# Altium schematic symbol library SMLib.SchLib: 32 symbols
Pins are listed as number, name and electrical type; pins without a type are passive.

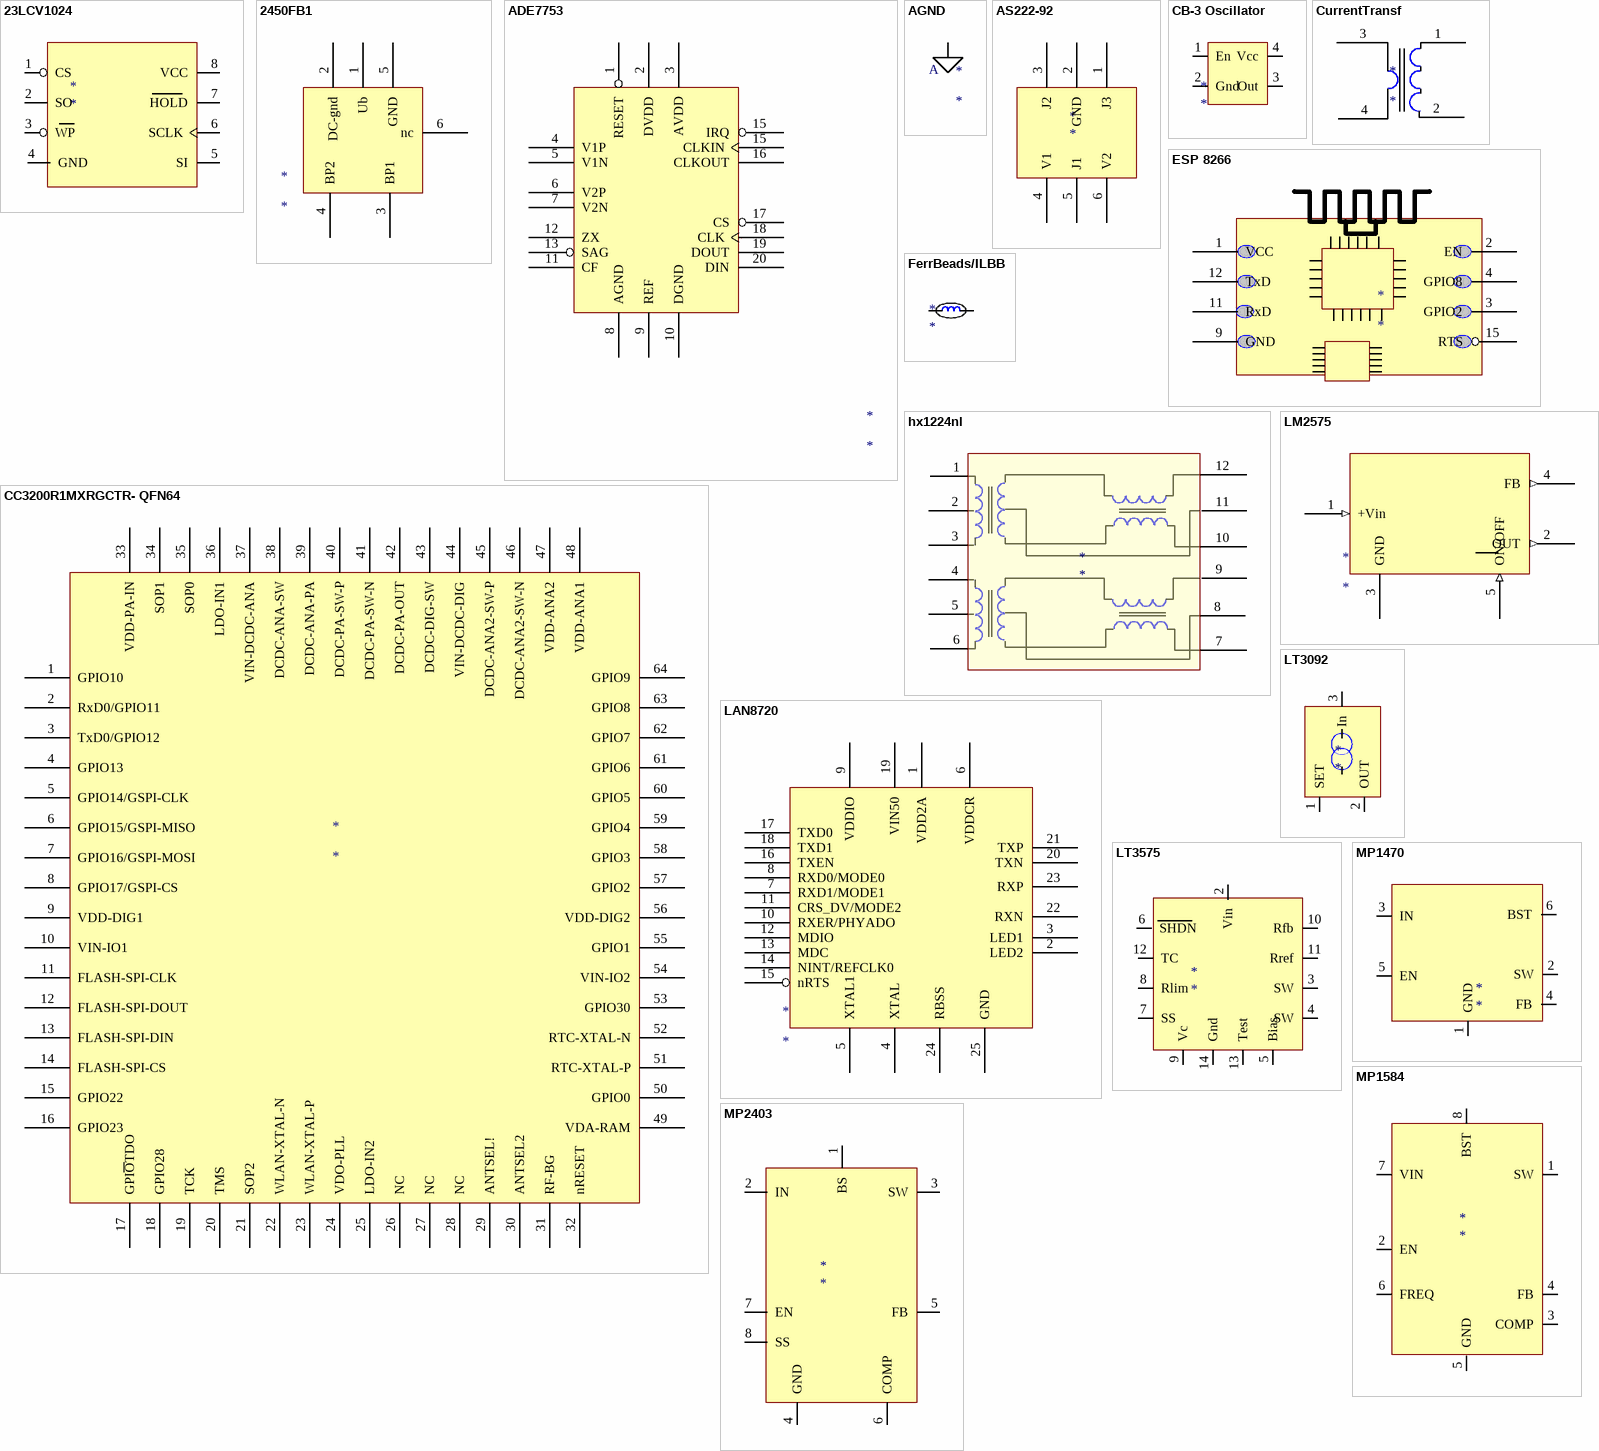
[diagram p0: symbols 23LCV1024 to MP2403]

## 23LCV1024
designator *
pins: 1 CS, 2 SO, 3 WP, 4 GND, 5 SI, 6 SCLK, 7 HOLD, 8 VCC

## 2450FB1
designator *
currTrans
footprint 2450FB1
pins: 1 Ub, 2 DC-gnd, 3 BP1, 4 BP2, 5 GND, 6 nc

## ADE7753
designator *
pins: 1 RESET, 2 DVDD, 3 AVDD, 4 V1P, 5 V1N, 6 V2P, 7 V2N, 8 AGND, 9 REF, 10 DGND, 11 CF, 12 ZX, 13 SAG, 15 IRQ, 15 CLKIN, 16 CLKOUT, 17 CS, 18 CLK, 19 DOUT, 20 DIN

## AGND
designator *
footprint HC49/4H_SMX (Quartz Crystal, SM; Body 13.4 (inc. leads) x 4.9 mm (LxW max))
footprint HC49/4H_SMX (Quartz Crystal, SM; Body 13.4 (inc. leads) x 4.9 mm (LxW max))
pins: VIN18 (power)
text: A

## AS222-92
designator *
footprint AS222-92
pins: 1 J3, 2 GND, 3 J2, 4 V1, 5 J1, 6 V2

## CB-3 Oscillator
designator *
pins: 1 En, 2 Gnd, 3 Out, 4 Vcc

## CC3200R1MXRGCTR- QFN64
designator *
footprint QNF64 (Footprint not found)
footprint QNF64 (Footprint not found)
footprint D008_L (8-Pin Small Outline Integrated Circuit 1.27 mm Pitch, IPC High Density)
footprint TQFP-64_M (64-Pin Thin Plastic Quad Flat Pack 0.5 mm Pitch, 1.0/0.1 mm Lead Form, IPC Low Density)
footprint TQFP-64_N (64-Pin Thin Plastic Quad Flat Pack 0.5 mm Pitch, 1.0/0.1 mm Lead Form, IPC Medium Density)
pins: 1 GPIO10, 2 RxD0/GPIO11, 3 TxD0/GPIO12, 4 GPIO13, 5 GPIO14/GSPI-CLK, 6 GPIO15/GSPI-MISO, 7 GPIO16/GSPI-MOSI, 8 GPIO17/GSPI-CS, 9 VDD-DIG1, 10 VIN-IO1, 11 FLASH-SPI-CLK, 12 FLASH-SPI-DOUT, 13 FLASH-SPI-DIN, 14 FLASH-SPI-CS, 15 GPIO22, 16 GPIO23, 17 GPI~{O}TDO, 18 GPIO28, 19 TCK, 20 TMS, 21 SOP2, 22 WLAN-XTAL-N, 23 WLAN-XTAL-P, 24 VDO-PLL, 25 LDO-IN2, 26 NC, 27 NC, 28 NC, 29 ANTSEL!, 30 ANTSEL2, 31 RF-BG, 32 nRESET, 33 VDD-PA-IN, 34 SOP1, 35 SOP0, 36 LDO-IN1, 37 VIN-DCDC-ANA, 38 DCDC-ANA-SW, 39 DCDC-ANA-PA, 40 DCDC-PA-SW-P, 41 DCDC-PA-SW-N, 42 DCDC-PA-OUT, 43 DCDC-DIG-SW, 44 VIN-DCDC-DIG, 45 DCDC-ANA2-SW-P, 46 DCDC-ANA2-SW-N, 47 VDD-ANA2, 48 VDD-ANA1, 49 VDA-RAM, 50 GPIO0, 51 RTC-XTAL-P, 52 RTC-XTAL-N, 53 GPIO30, 54 VIN-IO2, 55 GPIO1, 56 VDD-DIG2, 57 GPIO2, 58 GPIO3, 59 GPIO4, 60 GPIO5, 61 GPIO6, 62 GPIO7, 63 GPIO8, 64 GPIO9

## CurrentTransf
designator *
footprint CT-ZMCT124 (current transformer)
pins: 1, 2, 3, 4

## ESP 8266
designator *
footprint PCBComponent_1 - duplicate
footprint PCBComponent_1 - duplicate
footprint PCBComponent_1 - duplicate
footprint ESP_1 (Footprint not found)
footprint ESP_1
pins: 1 VCC, 2 EN, 3 GPIO2, 4 GPIO8, 9 GND, 11 RxD, 12 TxD, 15 RTS

## FerrBeads/ILBB
designator *
pins: 1, 2

## hx1224nl
designator *
pins: 1 TD+, 2 TDCT, 3 TD-, 4, 5, 6, 7, 8, 9, 10, 11, 12

## LAN8720
designator *
footprint QFN24_4X4_N (QFN, 24-Leads, Body 4x4mm, Pitch 0.5mm, IPC Medium Density)
pins: 1 VDD2A, 2 LED2, 3 LED1, 4 XTAL, 5 XTAL1, 6 VDDCR, 7 RXD1/MODE1, 8 RXD0/MODE0, 9 VDDIO, 10 RXER/PHYADO, 11 CRS_DV/MODE2, 12 MDIO, 13 MDC, 14 NINT/REFCLK0, 15 nRTS, 16 TXEN, 17 TXD0, 18 TXD1, 19 VIN50, 20 TXN, 21 TXP, 22 RXN, 23 RXP, 24 RBSS, 25 GND

## LM2575
designator *
footprint TO-263/KTT (TO-263/KTT5 pins)
footprint TO-263/KTT (TO-263/KTT5 pins)
footprint TO-263/KTT (TO-263/KTT5 pins)
pins: 1 +Vin (in), 2 OUT (out), 3 GND (power), 4 FB (out), 5 ON/OFF (in)

## LT3092
designator *
pins: 1 SET, 2 OUT, 3 In (power)

## LT3575
designator *
pins: 2 Vin, 3 SW, 4 SW, 5 Bias, 6 SHDN, 7 SS, 8 Rlim, 9 Vc, 10 Rfb, 11 Rref, 12 TC, 13 Test, 14 Gnd

## MP1470
designator *
pins: 1 GND, 2 SW, 3 IN, 4 FB, 5 EN, 6 BST

## MP1584
designator *
pins: 1 SW, 2 EN, 3 COMP, 4 FB, 5 GND, 6 FREQ, 7 VIN, 8 BST

## MP2403
designator *
pins: 1 BS, 2 IN, 3 SW, 4 GND, 5 FB, 6 COMP, 7 EN, 8 SS

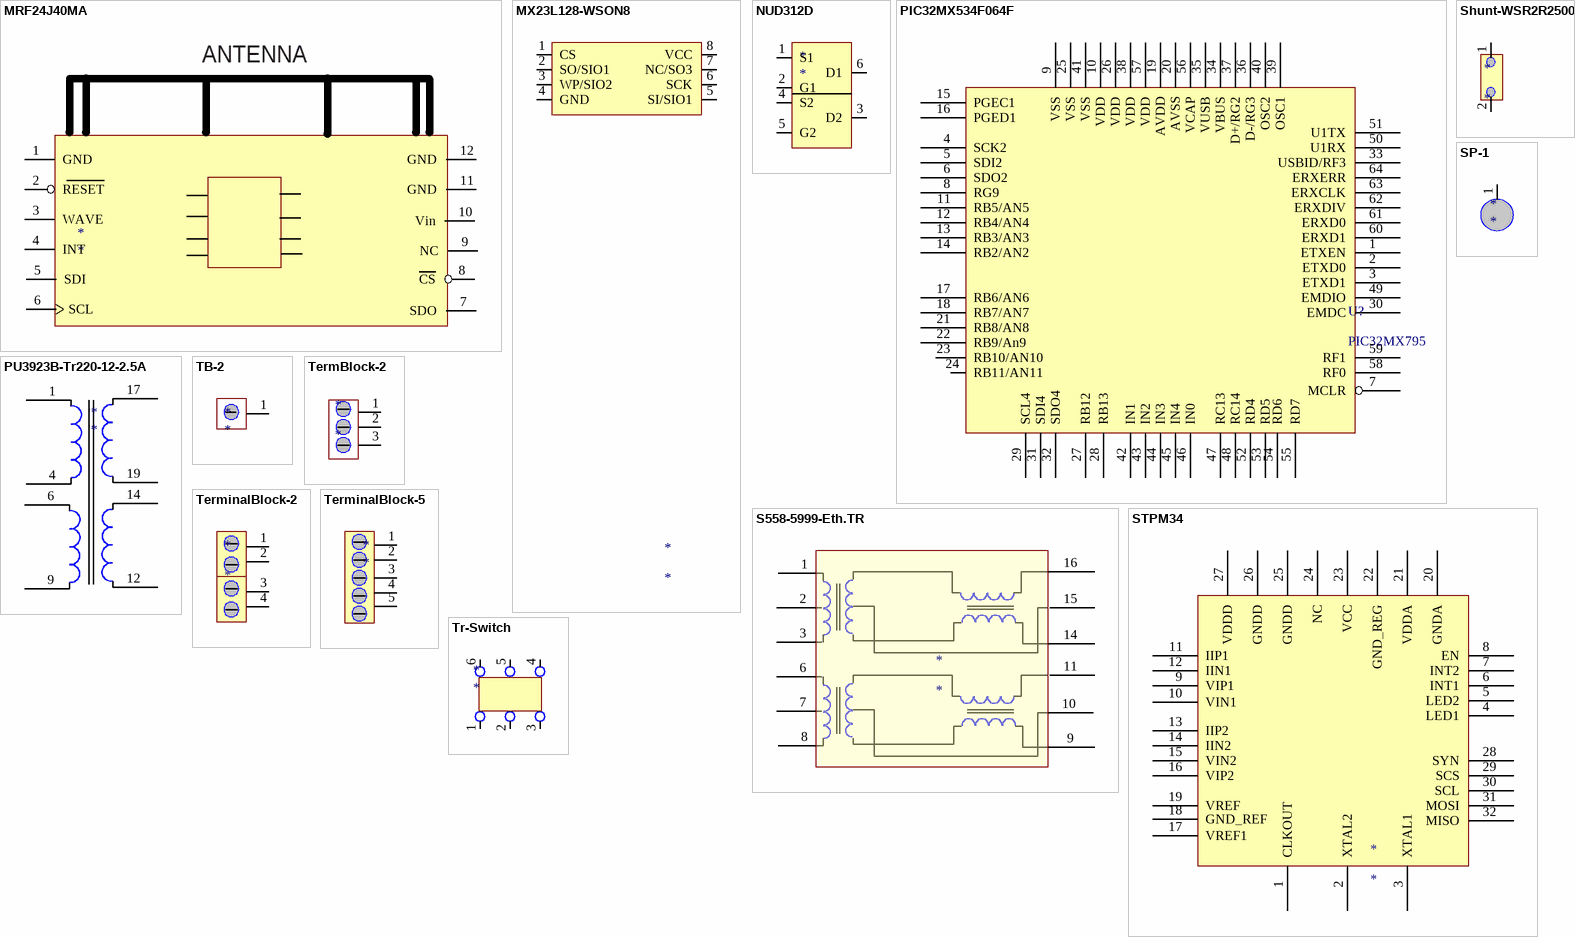
[diagram p1: symbols MRF24J40MA to Tr-Switch]

## MRF24J40MA
designator *
pins: 1 GND, 2 RESET, 3 WAVE, 4 INT, 5 SDI, 6 SCL, 7 SDO, 8 CS, 9 NC, 10 Vin, 11 GND, 12 GND
text: ANTENNA

## MX23L128-WSON8
designator *
footprint MX25L128-WSON8
pins: 1 CS, 2 SO/SIO1, 3 WP/SIO2, 4 GND, 5 SI/SIO1, 6 SCK, 7 NC/SO3, 8 VCC

## NUD312D
designator *
pins: 1 S1, 2 G1, 3 D2, 4 S2, 5 G2, 6 D1

## PIC32MX534F064F
designator U?, comment PIC32MX795
footprint QFN64_N (QFN, 64-Leads, Body 9x9mm, Pitch 0.5mm, IPC Medium Density)
pins: 1 ETXEN, 2 ETXD0, 3 ETXD1, 4 SCK2, 5 SDI2, 6 SDO2, 7 MCLR, 8 RG9, 9 VSS, 10 VDD, 11 RB5/AN5, 12 RB4/AN4, 13 RB3/AN3, 14 RB2/AN2, 15 PGEC1, 16 PGED1, 17 RB6/AN6, 18 RB7/AN7, 19 AVDD, 20 AVSS, 21 RB8/AN8, 22 RB9/An9, 23 RB10/AN10, 24 RB11/AN11, 25 VSS, 26 VDD, 27 RB12, 28 RB13, 29 SCL4, 30 EMDC, 31 SDI4, 32 SDO4, 33 USBID/RF3, 34 VBUS, 35 VUSB, 36 D-/RG3, 37 D+/RG2, 38 VDD, 39 OSC1, 40 OSC2, 41 VSS, 42 IN1, 43 IN2, 44 IN3, 45 IN4, 46 IN0, 47 RC13, 48 RC14, 49 EMDIO, 50 U1RX, 51 U1TX, 52 RD4, 53 RD5, 54 RD6, 55 RD7, 56 VCAP, 57 VDD, 58 RF0, 59 RF1, 60 ERXD1, 61 ERXD0, 62 ERXDIV, 63 ERXCLK, 64 ERXERR

## PU3923B-Tr220-12-2.5A
designator *
pins: 1, 4, 6, 9, 12, 14, 17, 19

## S558-5999-Eth.TR
designator *
pins: 1 TD+, 2 TDCT, 3 TD-, 6 16, 7 17, 8 18, 10 13, 11 12, 14, 15 11, 16 Tx+ 16,  9 14

## Shunt-WSR2R2500
designator *
footprint Shunt
pins: 1, 2

## SP-1
designator *
pins: 1

## STPM34
designator *
footprint QFN32_L (QFN, 32-Leads, Body 7x7 mm, Pitch 0.65mm, IPC High Density)
pins: 1 CLKOUT, 2 XTAL2, 3 XTAL1, 4 LED1, 5 LED2, 6 INT1, 7 INT2, 8 EN, 9 VIP1, 10 VIN1, 11 IIP1, 12 IIN1, 13 IIP2, 14 IIN2, 15 VIN2, 16 VIP2, 17 VREF1, 18 GND_REF, 19 VREF, 20 GNDA, 21 VDDA, 22 GND_REG, 23 VCC, 24 NC, 25 GNDD, 26 GNDD, 27 VDDD, 28 SYN, 29 SCS, 30 SCL, 31 MOSI, 32 MISO

## TB-2
designator *
pins: 1

## TermBlock-2
designator *
footprint TB-1300-0-C (terminal block)
footprint TB-1300-0-C (terminal block)
pins: 1, 2, 3

## TerminalBlock-2
designator *
pins: 1, 2, 3, 4

## TerminalBlock-5
designator *
pins: 1, 2, 3, 4, 5

## Tr-Switch
designator *
pins: 1, 2 1, 3, 4, 5, 6